# Altium footprint library Headers.PcbLib: 91 footprints (part 4 of 6)
Each footprint in its own frame and in the unit in brackets; x right, y up, seen from the top. Pads: shape width x height; smd on the part's side, far side on the other; paste and mask are expansions set on the pad; w line width, h text height; cw(c..) or ccw(c..) is an arc to the next point about the centre after c.
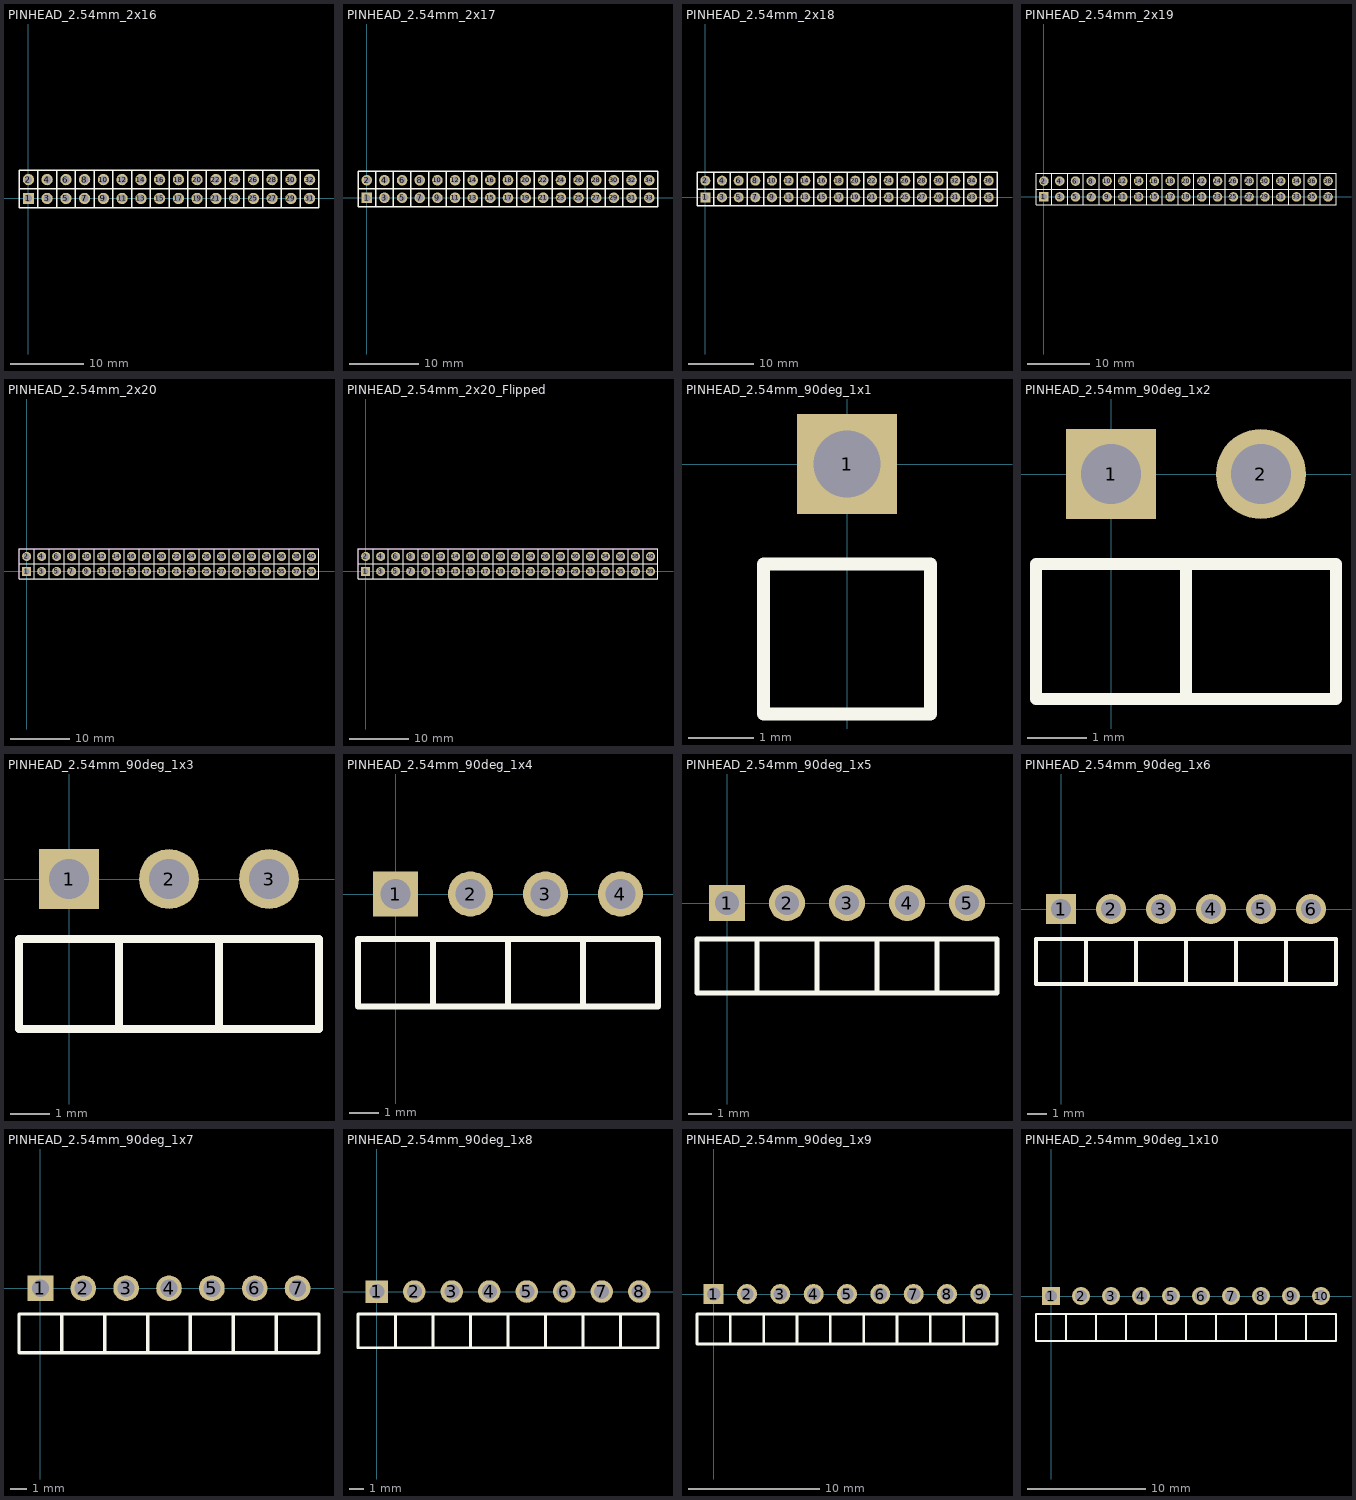
[diagram p3: the footprints below, top view; thin cyan lines are the x and y axes]

## PINHEAD_2.54mm_2x16 [mil]
pads (32):
  rect 60x60 hole 40: 1(0,0)
  round 60 hole 40: 2(0,100) 3(100,0) 4(100,100) 5(200,0) 6(200,100) 7(300,0) 8(300,100) 9(400,0) 10(400,100) 11(500,0) 12(500,100) 13(600,0) 14(600,100) 15(700,0) 16(700,100) 17(800,0) 18(800,100) 19(900,0) 20(900,100) 21(1000,0) 22(1000,100) 23(1100,0) 24(1100,100) 25(1200,0) 26(1200,100) 27(1300,0) 28(1300,100) 29(1400,0) 30(1400,100) 31(1500,0) 32(1500,100)
Top Overlay:
  lines w7.87: -50,50 50,50 ; -50,50 -50,-50 50,-50 ; -50,50 -50,150 50,150 ; -50,50 50,50 ; 50,-50 50,50 ; 50,-50 50,50 ; 50,-50 150,-50 ; 50,50 150,50 ; 50,50 150,50 ; 50,50 50,150 ; 50,50 50,150 ; 50,150 150,150 ; 150,-50 150,50 ; 150,-50 250,-50 ; 150,-50 150,50 ; 150,50 250,50 ; 150,50 150,150 ; 150,50 250,50 ; 150,50 150,150 ; 150,150 250,150 ; 250,-50 250,50 ; 250,-50 250,50 ; 250,-50 350,-50 ; 250,50 350,50 ; 250,50 350,50 ; 250,50 250,150 ; 250,50 250,150 ; 250,150 350,150 ; 350,-50 350,50 ; 350,-50 450,-50 ; 350,-50 350,50 ; 350,50 450,50 ; 350,50 350,150 ; 350,50 450,50 ; 350,50 350,150 ; 350,150 450,150 ; 450,-50 450,50 ; 450,-50 450,50 ; 450,-50 550,-50 ; 450,50 550,50 ; 450,50 550,50 ; 450,50 450,150 ; 450,50 450,150 ; 450,150 550,150 ; 550,-50 550,50 ; 550,-50 650,-50 ; 550,-50 550,50 ; 550,50 650,50 ; 550,50 550,150 ; 550,50 650,50 ; 550,50 550,150 ; 550,150 650,150 ; 650,-50 650,50 ; 650,-50 650,50 ; 650,-50 750,-50 ; 650,50 750,50 ; 650,50 750,50 ; 650,50 650,150 ; 650,50 650,150 ; 650,150 750,150 ; 750,-50 750,50 ; 750,-50 850,-50 ; 750,-50 750,50 ; 750,50 850,50 ; 750,50 750,150 ; 750,50 850,50 ; 750,50 750,150 ; 750,150 850,150 ; 850,-50 850,50 ; 850,-50 850,50 ; 850,-50 950,-50 ; 850,50 950,50 ; 850,50 950,50 ; 850,50 850,150 ; 850,50 850,150 ; 850,150 950,150 ; 950,-50 1050,-50 ; 950,-50 950,50 ; 950,-50 950,50 ; 950,50 1050,50 ; 950,50 950,150 ; 950,50 950,150 ; 950,50 1050,50 ; 950,150 1050,150 ; 1050,-50 1050,50 ; 1050,-50 1050,50 ; 1050,-50 1150,-50 ; 1050,50 1150,50 ; 1050,50 1150,50 ; 1050,50 1050,150 ; 1050,50 1050,150 ; 1050,150 1150,150 ; 1150,-50 1150,50 ; 1150,-50 1250,-50 ; 1150,-50 1150,50 ; 1150,50 1250,50 ; 1150,50 1150,150 ; 1150,50 1250,50 ; 1150,50 1150,150 ; 1150,150 1250,150 ; 1250,-50 1250,50 ; 1250,-50 1250,50 ; 1250,-50 1350,-50 ; 1250,50 1350,50 ; 1250,50 1350,50 ; 1250,50 1250,150 ; 1250,50 1250,150 ; 1250,150 1350,150 ; 1350,-50 1350,50 ; 1350,-50 1450,-50 ; 1350,-50 1350,50 ; 1350,50 1450,50 ; 1350,50 1350,150 ; 1350,50 1450,50 ; 1350,50 1350,150 ; 1350,150 1450,150 ; 1450,-50 1450,50 ; 1450,-50 1450,50 ; 1450,-50 1550,-50 1550,150 1450,150 ; 1450,50 1550,50 1450,50 ; 1450,50 1450,150 ; 1450,50 1450,150
3D body "User Library-HDR1X1 Rectangular Straight.step": height 339.58, standoff -124.98, extent 946.86,-53.14 1053.16,53.16
3D body "User Library-HDR1X1 Rectangular Straight.step": height 339.58, standoff -124.98, extent 1046.86,-53.14 1153.16,53.16
3D body "User Library-HDR1X1 Rectangular Straight.step": height 339.58, standoff -124.98, extent 1146.86,-53.14 1253.16,53.16
3D body "User Library-HDR1X1 Rectangular Straight.step": height 339.58, standoff -124.98, extent 1246.86,-53.14 1353.16,53.16
3D body "User Library-HDR1X1 Rectangular Straight.step": height 339.58, standoff -124.98, extent 1346.86,-53.14 1453.16,53.16
3D body "User Library-HDR1X1 Rectangular Straight.step": height 339.58, standoff -124.98, extent -53.14,-53.14 53.16,53.16
3D body "User Library-HDR1X1 Rectangular Straight.step": height 339.58, standoff -124.98, extent 46.86,-53.14 153.16,53.16
3D body "User Library-HDR1X1 Rectangular Straight.step": height 339.58, standoff -124.98, extent 146.86,-53.14 253.16,53.16
3D body "User Library-HDR1X1 Rectangular Straight.step": height 339.58, standoff -124.98, extent 246.86,-53.14 353.16,53.16
3D body "User Library-HDR1X1 Rectangular Straight.step": height 339.58, standoff -124.98, extent 346.86,-53.14 453.16,53.16
3D body "User Library-HDR1X1 Rectangular Straight.step": height 339.58, standoff -124.98, extent 446.86,-53.14 553.16,53.16
3D body "User Library-HDR1X1 Rectangular Straight.step": height 339.58, standoff -124.98, extent 546.86,-53.14 653.16,53.16
3D body "User Library-HDR1X1 Rectangular Straight.step": height 339.58, standoff -124.98, extent 646.86,-53.14 753.16,53.16
3D body "User Library-HDR1X1 Rectangular Straight.step": height 339.58, standoff -124.98, extent 746.86,-53.14 853.16,53.16
3D body "User Library-HDR1X1 Rectangular Straight.step": height 339.58, standoff -124.98, extent 846.86,-53.14 953.16,53.16
3D body "User Library-HDR1X1 Rectangular Straight.step": height 339.58, standoff -124.98, extent 846.86,46.86 953.16,153.16
3D body "User Library-HDR1X1 Rectangular Straight.step": height 339.58, standoff -124.98, extent 746.86,46.86 853.16,153.16
3D body "User Library-HDR1X1 Rectangular Straight.step": height 339.58, standoff -124.98, extent 646.86,46.86 753.16,153.16
3D body "User Library-HDR1X1 Rectangular Straight.step": height 339.58, standoff -124.98, extent 546.86,46.86 653.16,153.16
3D body "User Library-HDR1X1 Rectangular Straight.step": height 339.58, standoff -124.98, extent 446.86,46.86 553.16,153.16
3D body "User Library-HDR1X1 Rectangular Straight.step": height 339.58, standoff -124.98, extent 346.86,46.86 453.16,153.16
3D body "User Library-HDR1X1 Rectangular Straight.step": height 339.58, standoff -124.98, extent 246.86,46.86 353.16,153.16
3D body "User Library-HDR1X1 Rectangular Straight.step": height 339.58, standoff -124.98, extent 146.86,46.86 253.16,153.16
3D body "User Library-HDR1X1 Rectangular Straight.step": height 339.58, standoff -124.98, extent 46.86,46.86 153.16,153.16
3D body "User Library-HDR1X1 Rectangular Straight.step": height 339.58, standoff -124.98, extent -53.14,46.86 53.16,153.16
3D body "User Library-HDR1X1 Rectangular Straight.step": height 339.58, standoff -124.98, extent 1346.86,46.86 1453.16,153.16
3D body "User Library-HDR1X1 Rectangular Straight.step": height 339.58, standoff -124.98, extent 1246.86,46.86 1353.16,153.16
3D body "User Library-HDR1X1 Rectangular Straight.step": height 339.58, standoff -124.98, extent 1146.86,46.86 1253.16,153.16
3D body "User Library-HDR1X1 Rectangular Straight.step": height 339.58, standoff -124.98, extent 1046.86,46.86 1153.16,153.16
3D body "User Library-HDR1X1 Rectangular Straight.step": height 339.58, standoff -124.98, extent 946.86,46.86 1053.16,153.16
3D body "User Library-HDR1X1 Rectangular Straight.step": height 339.58, standoff -124.98, extent 1446.86,-53.14 1553.16,53.16
3D body "User Library-HDR1X1 Rectangular Straight.step": height 339.58, standoff -124.98, extent 1446.86,46.86 1553.16,153.16

## PINHEAD_2.54mm_2x17 [mil]
pads (34):
  rect 60x60 hole 40: 1(0,0)
  round 60 hole 40: 2(0,100) 3(100,0) 4(100,100) 5(200,0) 6(200,100) 7(300,0) 8(300,100) 9(400,0) 10(400,100) 11(500,0) 12(500,100) 13(600,0) 14(600,100) 15(700,0) 16(700,100) 17(800,0) 18(800,100) 19(900,0) 20(900,100) 21(1000,0) 22(1000,100) 23(1100,0) 24(1100,100) 25(1200,0) 26(1200,100) 27(1300,0) 28(1300,100) 29(1400,0) 30(1400,100) 31(1500,0) 32(1500,100) 33(1600,0) 34(1600,100)
Top Overlay:
  lines w7.87: -50,50 50,50 ; -50,50 -50,-50 50,-50 ; -50,50 -50,150 50,150 ; -50,50 50,50 ; 50,-50 50,50 ; 50,-50 50,50 ; 50,-50 150,-50 ; 50,50 150,50 ; 50,50 150,50 ; 50,50 50,150 ; 50,50 50,150 ; 50,150 150,150 ; 150,-50 150,50 ; 150,-50 250,-50 ; 150,-50 150,50 ; 150,50 250,50 ; 150,50 150,150 ; 150,50 250,50 ; 150,50 150,150 ; 150,150 250,150 ; 250,-50 250,50 ; 250,-50 250,50 ; 250,-50 350,-50 ; 250,50 350,50 ; 250,50 350,50 ; 250,50 250,150 ; 250,50 250,150 ; 250,150 350,150 ; 350,-50 350,50 ; 350,-50 450,-50 ; 350,-50 350,50 ; 350,50 450,50 ; 350,50 350,150 ; 350,50 450,50 ; 350,50 350,150 ; 350,150 450,150 ; 450,-50 450,50 ; 450,-50 450,50 ; 450,-50 550,-50 ; 450,50 550,50 ; 450,50 550,50 ; 450,50 450,150 ; 450,50 450,150 ; 450,150 550,150 ; 550,-50 550,50 ; 550,-50 650,-50 ; 550,-50 550,50 ; 550,50 650,50 ; 550,50 550,150 ; 550,50 650,50 ; 550,50 550,150 ; 550,150 650,150 ; 650,-50 650,50 ; 650,-50 650,50 ; 650,-50 750,-50 ; 650,50 750,50 ; 650,50 750,50 ; 650,50 650,150 ; 650,50 650,150 ; 650,150 750,150 ; 750,-50 750,50 ; 750,-50 850,-50 ; 750,-50 750,50 ; 750,50 850,50 ; 750,50 750,150 ; 750,50 850,50 ; 750,50 750,150 ; 750,150 850,150 ; 850,-50 850,50 ; 850,-50 850,50 ; 850,-50 950,-50 ; 850,50 950,50 ; 850,50 950,50 ; 850,50 850,150 ; 850,50 850,150 ; 850,150 950,150 ; 950,-50 1050,-50 ; 950,-50 950,50 ; 950,-50 950,50 ; 950,50 1050,50 ; 950,50 950,150 ; 950,50 950,150 ; 950,50 1050,50 ; 950,150 1050,150 ; 1050,-50 1050,50 ; 1050,-50 1050,50 ; 1050,-50 1150,-50 ; 1050,50 1150,50 ; 1050,50 1150,50 ; 1050,50 1050,150 ; 1050,50 1050,150 ; 1050,150 1150,150 ; 1150,-50 1150,50 ; 1150,-50 1250,-50 ; 1150,-50 1150,50 ; 1150,50 1250,50 ; 1150,50 1150,150 ; 1150,50 1250,50 ; 1150,50 1150,150 ; 1150,150 1250,150 ; 1250,-50 1250,50 ; 1250,-50 1250,50 ; 1250,-50 1350,-50 ; 1250,50 1350,50 ; 1250,50 1350,50 ; 1250,50 1250,150 ; 1250,50 1250,150 ; 1250,150 1350,150 ; 1350,-50 1350,50 ; 1350,-50 1450,-50 ; 1350,-50 1350,50 ; 1350,50 1450,50 ; 1350,50 1350,150 ; 1350,50 1450,50 ; 1350,50 1350,150 ; 1350,150 1450,150 ; 1450,-50 1450,50 ; 1450,-50 1450,50 ; 1450,-50 1550,-50 ; 1450,50 1550,50 ; 1450,50 1550,50 ; 1450,50 1450,150 ; 1450,50 1450,150 ; 1450,150 1550,150 ; 1550,-50 1550,50 ; 1550,-50 1650,-50 1650,150 1550,150 ; 1550,-50 1550,50 ; 1550,50 1650,50 1550,50 ; 1550,50 1550,150 ; 1550,50 1550,150
3D body "User Library-HDR1X1 Rectangular Straight.step": height 339.58, standoff -124.98, extent 946.86,-53.14 1053.16,53.16
3D body "User Library-HDR1X1 Rectangular Straight.step": height 339.58, standoff -124.98, extent 1046.86,-53.14 1153.16,53.16
3D body "User Library-HDR1X1 Rectangular Straight.step": height 339.58, standoff -124.98, extent 1146.86,-53.14 1253.16,53.16
3D body "User Library-HDR1X1 Rectangular Straight.step": height 339.58, standoff -124.98, extent 1246.86,-53.14 1353.16,53.16
3D body "User Library-HDR1X1 Rectangular Straight.step": height 339.58, standoff -124.98, extent 1346.86,-53.14 1453.16,53.16
3D body "User Library-HDR1X1 Rectangular Straight.step": height 339.58, standoff -124.98, extent 1446.86,-53.14 1553.16,53.16
3D body "User Library-HDR1X1 Rectangular Straight.step": height 339.58, standoff -124.98, extent 1546.86,-53.14 1653.16,53.16
3D body "User Library-HDR1X1 Rectangular Straight.step": height 339.58, standoff -124.98, extent -53.14,-53.14 53.16,53.16
3D body "User Library-HDR1X1 Rectangular Straight.step": height 339.58, standoff -124.98, extent 46.86,-53.14 153.16,53.16
3D body "User Library-HDR1X1 Rectangular Straight.step": height 339.58, standoff -124.98, extent 146.86,-53.14 253.16,53.16
3D body "User Library-HDR1X1 Rectangular Straight.step": height 339.58, standoff -124.98, extent 246.86,-53.14 353.16,53.16
3D body "User Library-HDR1X1 Rectangular Straight.step": height 339.58, standoff -124.98, extent 346.86,-53.14 453.16,53.16
3D body "User Library-HDR1X1 Rectangular Straight.step": height 339.58, standoff -124.98, extent 446.86,-53.14 553.16,53.16
3D body "User Library-HDR1X1 Rectangular Straight.step": height 339.58, standoff -124.98, extent 546.86,-53.14 653.16,53.16
3D body "User Library-HDR1X1 Rectangular Straight.step": height 339.58, standoff -124.98, extent 646.86,-53.14 753.16,53.16
3D body "User Library-HDR1X1 Rectangular Straight.step": height 339.58, standoff -124.98, extent 746.86,-53.14 853.16,53.16
3D body "User Library-HDR1X1 Rectangular Straight.step": height 339.58, standoff -124.98, extent 846.86,-53.14 953.16,53.16
3D body "User Library-HDR1X1 Rectangular Straight.step": height 339.58, standoff -124.98, extent 846.86,46.86 953.16,153.16
3D body "User Library-HDR1X1 Rectangular Straight.step": height 339.58, standoff -124.98, extent 746.86,46.86 853.16,153.16
3D body "User Library-HDR1X1 Rectangular Straight.step": height 339.58, standoff -124.98, extent 646.86,46.86 753.16,153.16
3D body "User Library-HDR1X1 Rectangular Straight.step": height 339.58, standoff -124.98, extent 546.86,46.86 653.16,153.16
3D body "User Library-HDR1X1 Rectangular Straight.step": height 339.58, standoff -124.98, extent 446.86,46.86 553.16,153.16
3D body "User Library-HDR1X1 Rectangular Straight.step": height 339.58, standoff -124.98, extent 346.86,46.86 453.16,153.16
3D body "User Library-HDR1X1 Rectangular Straight.step": height 339.58, standoff -124.98, extent 246.86,46.86 353.16,153.16
3D body "User Library-HDR1X1 Rectangular Straight.step": height 339.58, standoff -124.98, extent 146.86,46.86 253.16,153.16
3D body "User Library-HDR1X1 Rectangular Straight.step": height 339.58, standoff -124.98, extent 46.86,46.86 153.16,153.16
3D body "User Library-HDR1X1 Rectangular Straight.step": height 339.58, standoff -124.98, extent -53.14,46.86 53.16,153.16
3D body "User Library-HDR1X1 Rectangular Straight.step": height 339.58, standoff -124.98, extent 1546.86,46.86 1653.16,153.16
3D body "User Library-HDR1X1 Rectangular Straight.step": height 339.58, standoff -124.98, extent 1446.86,46.86 1553.16,153.16
3D body "User Library-HDR1X1 Rectangular Straight.step": height 339.58, standoff -124.98, extent 1346.86,46.86 1453.16,153.16
3D body "User Library-HDR1X1 Rectangular Straight.step": height 339.58, standoff -124.98, extent 1246.86,46.86 1353.16,153.16
3D body "User Library-HDR1X1 Rectangular Straight.step": height 339.58, standoff -124.98, extent 1146.86,46.86 1253.16,153.16
3D body "User Library-HDR1X1 Rectangular Straight.step": height 339.58, standoff -124.98, extent 1046.86,46.86 1153.16,153.16
3D body "User Library-HDR1X1 Rectangular Straight.step": height 339.58, standoff -124.98, extent 946.86,46.86 1053.16,153.16

## PINHEAD_2.54mm_2x18 [mil]
pads (36):
  rect 60x60 hole 40: 1(0,0)
  round 60 hole 40: 2(0,100) 3(100,0) 4(100,100) 5(200,0) 6(200,100) 7(300,0) 8(300,100) 9(400,0) 10(400,100) 11(500,0) 12(500,100) 13(600,0) 14(600,100) 15(700,0) 16(700,100) 17(800,0) 18(800,100) 19(900,0) 20(900,100) 21(1000,0) 22(1000,100) 23(1100,0) 24(1100,100) 25(1200,0) 26(1200,100) 27(1300,0) 28(1300,100) 29(1400,0) 30(1400,100) 31(1500,0) 32(1500,100) 33(1600,0) 34(1600,100) 35(1700,0) 36(1700,100)
Top Overlay:
  lines w7.87: -50,50 50,50 ; -50,50 -50,-50 50,-50 ; -50,50 -50,150 50,150 ; -50,50 50,50 ; 50,-50 50,50 ; 50,-50 50,50 ; 50,-50 150,-50 ; 50,50 150,50 ; 50,50 150,50 ; 50,50 50,150 ; 50,50 50,150 ; 50,150 150,150 ; 150,-50 150,50 ; 150,-50 250,-50 ; 150,-50 150,50 ; 150,50 250,50 ; 150,50 150,150 ; 150,50 250,50 ; 150,50 150,150 ; 150,150 250,150 ; 250,-50 250,50 ; 250,-50 250,50 ; 250,-50 350,-50 ; 250,50 350,50 ; 250,50 350,50 ; 250,50 250,150 ; 250,50 250,150 ; 250,150 350,150 ; 350,-50 350,50 ; 350,-50 450,-50 ; 350,-50 350,50 ; 350,50 450,50 ; 350,50 350,150 ; 350,50 450,50 ; 350,50 350,150 ; 350,150 450,150 ; 450,-50 450,50 ; 450,-50 450,50 ; 450,-50 550,-50 ; 450,50 550,50 ; 450,50 550,50 ; 450,50 450,150 ; 450,50 450,150 ; 450,150 550,150 ; 550,-50 550,50 ; 550,-50 650,-50 ; 550,-50 550,50 ; 550,50 650,50 ; 550,50 550,150 ; 550,50 650,50 ; 550,50 550,150 ; 550,150 650,150 ; 650,-50 650,50 ; 650,-50 650,50 ; 650,-50 750,-50 ; 650,50 750,50 ; 650,50 750,50 ; 650,50 650,150 ; 650,50 650,150 ; 650,150 750,150 ; 750,-50 750,50 ; 750,-50 850,-50 ; 750,-50 750,50 ; 750,50 850,50 ; 750,50 750,150 ; 750,50 850,50 ; 750,50 750,150 ; 750,150 850,150 ; 850,-50 850,50 ; 850,-50 850,50 ; 850,-50 950,-50 ; 850,50 950,50 ; 850,50 950,50 ; 850,50 850,150 ; 850,50 850,150 ; 850,150 950,150 ; 950,-50 1050,-50 ; 950,-50 950,50 ; 950,-50 950,50 ; 950,50 1050,50 ; 950,50 950,150 ; 950,50 950,150 ; 950,50 1050,50 ; 950,150 1050,150 ; 1050,-50 1050,50 ; 1050,-50 1050,50 ; 1050,-50 1150,-50 ; 1050,50 1150,50 ; 1050,50 1150,50 ; 1050,50 1050,150 ; 1050,50 1050,150 ; 1050,150 1150,150 ; 1150,-50 1150,50 ; 1150,-50 1250,-50 ; 1150,-50 1150,50 ; 1150,50 1250,50 ; 1150,50 1150,150 ; 1150,50 1250,50 ; 1150,50 1150,150 ; 1150,150 1250,150 ; 1250,-50 1250,50 ; 1250,-50 1250,50 ; 1250,-50 1350,-50 ; 1250,50 1350,50 ; 1250,50 1350,50 ; 1250,50 1250,150 ; 1250,50 1250,150 ; 1250,150 1350,150 ; 1350,-50 1350,50 ; 1350,-50 1450,-50 ; 1350,-50 1350,50 ; 1350,50 1450,50 ; 1350,50 1350,150 ; 1350,50 1450,50 ; 1350,50 1350,150 ; 1350,150 1450,150 ; 1450,-50 1450,50 ; 1450,-50 1450,50 ; 1450,-50 1550,-50 ; 1450,50 1550,50 ; 1450,50 1550,50 ; 1450,50 1450,150 ; 1450,50 1450,150 ; 1450,150 1550,150 ; 1550,-50 1550,50 ; 1550,-50 1650,-50 ; 1550,-50 1550,50 ; 1550,50 1650,50 ; 1550,50 1550,150 ; 1550,50 1650,50 ; 1550,50 1550,150 ; 1550,150 1650,150 ; 1650,-50 1650,50 ; 1650,-50 1650,50 ; 1650,-50 1750,-50 1750,150 1650,150 ; 1650,50 1750,50 1650,50 ; 1650,50 1650,150 ; 1650,50 1650,150
3D body "User Library-HDR1X1 Rectangular Straight.step": height 339.58, standoff -124.98, extent 946.86,-53.14 1053.16,53.16
3D body "User Library-HDR1X1 Rectangular Straight.step": height 339.58, standoff -124.98, extent 1046.86,-53.14 1153.16,53.16
3D body "User Library-HDR1X1 Rectangular Straight.step": height 339.58, standoff -124.98, extent 1146.86,-53.14 1253.16,53.16
3D body "User Library-HDR1X1 Rectangular Straight.step": height 339.58, standoff -124.98, extent 1246.86,-53.14 1353.16,53.16
3D body "User Library-HDR1X1 Rectangular Straight.step": height 339.58, standoff -124.98, extent 1346.86,-53.14 1453.16,53.16
3D body "User Library-HDR1X1 Rectangular Straight.step": height 339.58, standoff -124.98, extent 1446.86,-53.14 1553.16,53.16
3D body "User Library-HDR1X1 Rectangular Straight.step": height 339.58, standoff -124.98, extent 1546.86,-53.14 1653.16,53.16
3D body "User Library-HDR1X1 Rectangular Straight.step": height 339.58, standoff -124.98, extent 1646.86,-53.14 1753.16,53.16
3D body "User Library-HDR1X1 Rectangular Straight.step": height 339.58, standoff -124.98, extent -53.14,-53.14 53.16,53.16
3D body "User Library-HDR1X1 Rectangular Straight.step": height 339.58, standoff -124.98, extent 46.86,-53.14 153.16,53.16
3D body "User Library-HDR1X1 Rectangular Straight.step": height 339.58, standoff -124.98, extent 146.86,-53.14 253.16,53.16
3D body "User Library-HDR1X1 Rectangular Straight.step": height 339.58, standoff -124.98, extent 246.86,-53.14 353.16,53.16
3D body "User Library-HDR1X1 Rectangular Straight.step": height 339.58, standoff -124.98, extent 346.86,-53.14 453.16,53.16
3D body "User Library-HDR1X1 Rectangular Straight.step": height 339.58, standoff -124.98, extent 446.86,-53.14 553.16,53.16
3D body "User Library-HDR1X1 Rectangular Straight.step": height 339.58, standoff -124.98, extent 546.86,-53.14 653.16,53.16
3D body "User Library-HDR1X1 Rectangular Straight.step": height 339.58, standoff -124.98, extent 646.86,-53.14 753.16,53.16
3D body "User Library-HDR1X1 Rectangular Straight.step": height 339.58, standoff -124.98, extent 746.86,-53.14 853.16,53.16
3D body "User Library-HDR1X1 Rectangular Straight.step": height 339.58, standoff -124.98, extent 846.86,-53.14 953.16,53.16
3D body "User Library-HDR1X1 Rectangular Straight.step": height 339.58, standoff -124.98, extent 846.86,46.86 953.16,153.16
3D body "User Library-HDR1X1 Rectangular Straight.step": height 339.58, standoff -124.98, extent 746.86,46.86 853.16,153.16
3D body "User Library-HDR1X1 Rectangular Straight.step": height 339.58, standoff -124.98, extent 646.86,46.86 753.16,153.16
3D body "User Library-HDR1X1 Rectangular Straight.step": height 339.58, standoff -124.98, extent 546.86,46.86 653.16,153.16
3D body "User Library-HDR1X1 Rectangular Straight.step": height 339.58, standoff -124.98, extent 446.86,46.86 553.16,153.16
3D body "User Library-HDR1X1 Rectangular Straight.step": height 339.58, standoff -124.98, extent 346.86,46.86 453.16,153.16
3D body "User Library-HDR1X1 Rectangular Straight.step": height 339.58, standoff -124.98, extent 246.86,46.86 353.16,153.16
3D body "User Library-HDR1X1 Rectangular Straight.step": height 339.58, standoff -124.98, extent 146.86,46.86 253.16,153.16
3D body "User Library-HDR1X1 Rectangular Straight.step": height 339.58, standoff -124.98, extent 46.86,46.86 153.16,153.16
3D body "User Library-HDR1X1 Rectangular Straight.step": height 339.58, standoff -124.98, extent -53.14,46.86 53.16,153.16
3D body "User Library-HDR1X1 Rectangular Straight.step": height 339.58, standoff -124.98, extent 1646.86,46.86 1753.16,153.16
3D body "User Library-HDR1X1 Rectangular Straight.step": height 339.58, standoff -124.98, extent 1546.86,46.86 1653.16,153.16
3D body "User Library-HDR1X1 Rectangular Straight.step": height 339.58, standoff -124.98, extent 1446.86,46.86 1553.16,153.16
3D body "User Library-HDR1X1 Rectangular Straight.step": height 339.58, standoff -124.98, extent 1346.86,46.86 1453.16,153.16
3D body "User Library-HDR1X1 Rectangular Straight.step": height 339.58, standoff -124.98, extent 1246.86,46.86 1353.16,153.16
3D body "User Library-HDR1X1 Rectangular Straight.step": height 339.58, standoff -124.98, extent 1146.86,46.86 1253.16,153.16
3D body "User Library-HDR1X1 Rectangular Straight.step": height 339.58, standoff -124.98, extent 1046.86,46.86 1153.16,153.16
3D body "User Library-HDR1X1 Rectangular Straight.step": height 339.58, standoff -124.98, extent 946.86,46.86 1053.16,153.16

## PINHEAD_2.54mm_2x19 [mil]
pads (38):
  rect 60x60 hole 40: 1(0,0)
  round 60 hole 40: 2(0,100) 3(100,0) 4(100,100) 5(200,0) 6(200,100) 7(300,0) 8(300,100) 9(400,0) 10(400,100) 11(500,0) 12(500,100) 13(600,0) 14(600,100) 15(700,0) 16(700,100) 17(800,0) 18(800,100) 19(900,0) 20(900,100) 21(1000,0) 22(1000,100) 23(1100,0) 24(1100,100) 25(1200,0) 26(1200,100) 27(1300,0) 28(1300,100) 29(1400,0) 30(1400,100) 31(1500,0) 32(1500,100) 33(1600,0) 34(1600,100) 35(1700,0) 36(1700,100) 37(1800,0) 38(1800,100)
Top Overlay:
  drawing of 151 lines, arcs and shapes, not listed
3D body "User Library-HDR1X1 Rectangular Straight.step": height 339.58, standoff -124.98, extent 946.86,-53.14 1053.16,53.16
3D body "User Library-HDR1X1 Rectangular Straight.step": height 339.58, standoff -124.98, extent 1046.86,-53.14 1153.16,53.16
3D body "User Library-HDR1X1 Rectangular Straight.step": height 339.58, standoff -124.98, extent 1146.86,-53.14 1253.16,53.16
3D body "User Library-HDR1X1 Rectangular Straight.step": height 339.58, standoff -124.98, extent 1246.86,-53.14 1353.16,53.16
3D body "User Library-HDR1X1 Rectangular Straight.step": height 339.58, standoff -124.98, extent 1346.86,-53.14 1453.16,53.16
3D body "User Library-HDR1X1 Rectangular Straight.step": height 339.58, standoff -124.98, extent 1446.86,-53.14 1553.16,53.16
3D body "User Library-HDR1X1 Rectangular Straight.step": height 339.58, standoff -124.98, extent 1546.86,-53.14 1653.16,53.16
3D body "User Library-HDR1X1 Rectangular Straight.step": height 339.58, standoff -124.98, extent 1646.86,-53.14 1753.16,53.16
3D body "User Library-HDR1X1 Rectangular Straight.step": height 339.58, standoff -124.98, extent 1746.86,-53.14 1853.16,53.16
3D body "User Library-HDR1X1 Rectangular Straight.step": height 339.58, standoff -124.98, extent -53.14,-53.14 53.16,53.16
3D body "User Library-HDR1X1 Rectangular Straight.step": height 339.58, standoff -124.98, extent 46.86,-53.14 153.16,53.16
3D body "User Library-HDR1X1 Rectangular Straight.step": height 339.58, standoff -124.98, extent 146.86,-53.14 253.16,53.16
3D body "User Library-HDR1X1 Rectangular Straight.step": height 339.58, standoff -124.98, extent 246.86,-53.14 353.16,53.16
3D body "User Library-HDR1X1 Rectangular Straight.step": height 339.58, standoff -124.98, extent 346.86,-53.14 453.16,53.16
3D body "User Library-HDR1X1 Rectangular Straight.step": height 339.58, standoff -124.98, extent 446.86,-53.14 553.16,53.16
3D body "User Library-HDR1X1 Rectangular Straight.step": height 339.58, standoff -124.98, extent 546.86,-53.14 653.16,53.16
3D body "User Library-HDR1X1 Rectangular Straight.step": height 339.58, standoff -124.98, extent 646.86,-53.14 753.16,53.16
3D body "User Library-HDR1X1 Rectangular Straight.step": height 339.58, standoff -124.98, extent 746.86,-53.14 853.16,53.16
3D body "User Library-HDR1X1 Rectangular Straight.step": height 339.58, standoff -124.98, extent 846.86,-53.14 953.16,53.16
3D body "User Library-HDR1X1 Rectangular Straight.step": height 339.58, standoff -124.98, extent 846.86,46.86 953.16,153.16
3D body "User Library-HDR1X1 Rectangular Straight.step": height 339.58, standoff -124.98, extent 746.86,46.86 853.16,153.16
3D body "User Library-HDR1X1 Rectangular Straight.step": height 339.58, standoff -124.98, extent 646.86,46.86 753.16,153.16
3D body "User Library-HDR1X1 Rectangular Straight.step": height 339.58, standoff -124.98, extent 546.86,46.86 653.16,153.16
3D body "User Library-HDR1X1 Rectangular Straight.step": height 339.58, standoff -124.98, extent 446.86,46.86 553.16,153.16
3D body "User Library-HDR1X1 Rectangular Straight.step": height 339.58, standoff -124.98, extent 346.86,46.86 453.16,153.16
3D body "User Library-HDR1X1 Rectangular Straight.step": height 339.58, standoff -124.98, extent 246.86,46.86 353.16,153.16
3D body "User Library-HDR1X1 Rectangular Straight.step": height 339.58, standoff -124.98, extent 146.86,46.86 253.16,153.16
3D body "User Library-HDR1X1 Rectangular Straight.step": height 339.58, standoff -124.98, extent 46.86,46.86 153.16,153.16
3D body "User Library-HDR1X1 Rectangular Straight.step": height 339.58, standoff -124.98, extent -53.14,46.86 53.16,153.16
3D body "User Library-HDR1X1 Rectangular Straight.step": height 339.58, standoff -124.98, extent 1746.86,46.86 1853.16,153.16
3D body "User Library-HDR1X1 Rectangular Straight.step": height 339.58, standoff -124.98, extent 1646.86,46.86 1753.16,153.16
3D body "User Library-HDR1X1 Rectangular Straight.step": height 339.58, standoff -124.98, extent 1546.86,46.86 1653.16,153.16
3D body "User Library-HDR1X1 Rectangular Straight.step": height 339.58, standoff -124.98, extent 1446.86,46.86 1553.16,153.16
3D body "User Library-HDR1X1 Rectangular Straight.step": height 339.58, standoff -124.98, extent 1346.86,46.86 1453.16,153.16
3D body "User Library-HDR1X1 Rectangular Straight.step": height 339.58, standoff -124.98, extent 1246.86,46.86 1353.16,153.16
3D body "User Library-HDR1X1 Rectangular Straight.step": height 339.58, standoff -124.98, extent 1146.86,46.86 1253.16,153.16
3D body "User Library-HDR1X1 Rectangular Straight.step": height 339.58, standoff -124.98, extent 1046.86,46.86 1153.16,153.16
3D body "User Library-HDR1X1 Rectangular Straight.step": height 339.58, standoff -124.98, extent 946.86,46.86 1053.16,153.16

## PINHEAD_2.54mm_2x20 [mil]
pads (40):
  rect 60x60 hole 40: 1(0,0)
  round 60 hole 40: 2(0,100) 3(100,0) 4(100,100) 5(200,0) 6(200,100) 7(300,0) 8(300,100) 9(400,0) 10(400,100) 11(500,0) 12(500,100) 13(600,0) 14(600,100) 15(700,0) 16(700,100) 17(800,0) 18(800,100) 19(900,0) 20(900,100) 21(1000,0) 22(1000,100) 23(1100,0) 24(1100,100) 25(1200,0) 26(1200,100) 27(1300,0) 28(1300,100) 29(1400,0) 30(1400,100) 31(1500,0) 32(1500,100) 33(1600,0) 34(1600,100) 35(1700,0) 36(1700,100) 37(1800,0) 38(1800,100) 39(1900,0) 40(1900,100)
Top Overlay:
  drawing of 160 lines, arcs and shapes, not listed
Mechanical 15:
  lines w1.97: -51.18,-51.18 1948.82,-51.18 1948.82,149.61 -51.18,149.61 -51.18,-51.18
  text ".Designator" at 35.43,31.5 h78.74
3D body "User Library-HDR1X1 Rectangular Straight.step": height 339.58, standoff -124.98, extent 946.86,46.86 1053.16,153.16
3D body "User Library-HDR1X1 Rectangular Straight.step": height 339.58, standoff -124.98, extent 1046.86,46.86 1153.16,153.16
3D body "User Library-HDR1X1 Rectangular Straight.step": height 339.58, standoff -124.98, extent 1146.86,46.86 1253.16,153.16
3D body "User Library-HDR1X1 Rectangular Straight.step": height 339.58, standoff -124.98, extent 1246.86,46.86 1353.16,153.16
3D body "User Library-HDR1X1 Rectangular Straight.step": height 339.58, standoff -124.98, extent 1346.86,46.86 1453.16,153.16
3D body "User Library-HDR1X1 Rectangular Straight.step": height 339.58, standoff -124.98, extent 1446.86,46.86 1553.16,153.16
3D body "User Library-HDR1X1 Rectangular Straight.step": height 339.58, standoff -124.98, extent 1546.86,46.86 1653.16,153.16
3D body "User Library-HDR1X1 Rectangular Straight.step": height 339.58, standoff -124.98, extent 1646.86,46.86 1753.16,153.16
3D body "User Library-HDR1X1 Rectangular Straight.step": height 339.58, standoff -124.98, extent 1746.86,46.86 1853.16,153.16
3D body "User Library-HDR1X1 Rectangular Straight.step": height 339.58, standoff -124.98, extent 1846.86,46.86 1953.16,153.16
3D body "User Library-HDR1X1 Rectangular Straight.step": height 339.58, standoff -124.98, extent -53.14,46.86 53.16,153.16
3D body "User Library-HDR1X1 Rectangular Straight.step": height 339.58, standoff -124.98, extent 46.86,46.86 153.16,153.16
3D body "User Library-HDR1X1 Rectangular Straight.step": height 339.58, standoff -124.98, extent 146.86,46.86 253.16,153.16
3D body "User Library-HDR1X1 Rectangular Straight.step": height 339.58, standoff -124.98, extent 246.86,46.86 353.16,153.16
3D body "User Library-HDR1X1 Rectangular Straight.step": height 339.58, standoff -124.98, extent 346.86,46.86 453.16,153.16
3D body "User Library-HDR1X1 Rectangular Straight.step": height 339.58, standoff -124.98, extent 446.86,46.86 553.16,153.16
3D body "User Library-HDR1X1 Rectangular Straight.step": height 339.58, standoff -124.98, extent 546.86,46.86 653.16,153.16
3D body "User Library-HDR1X1 Rectangular Straight.step": height 339.58, standoff -124.98, extent 646.86,46.86 753.16,153.16
3D body "User Library-HDR1X1 Rectangular Straight.step": height 339.58, standoff -124.98, extent 746.86,46.86 853.16,153.16
3D body "User Library-HDR1X1 Rectangular Straight.step": height 339.58, standoff -124.98, extent 846.86,46.86 953.16,153.16
3D body "User Library-HDR1X1 Rectangular Straight.step": height 339.58, standoff -124.98, extent 846.86,-53.14 953.16,53.16
3D body "User Library-HDR1X1 Rectangular Straight.step": height 339.58, standoff -124.98, extent 746.86,-53.14 853.16,53.16
3D body "User Library-HDR1X1 Rectangular Straight.step": height 339.58, standoff -124.98, extent 646.86,-53.14 753.16,53.16
3D body "User Library-HDR1X1 Rectangular Straight.step": height 339.58, standoff -124.98, extent 546.86,-53.14 653.16,53.16
3D body "User Library-HDR1X1 Rectangular Straight.step": height 339.58, standoff -124.98, extent 446.86,-53.14 553.16,53.16
3D body "User Library-HDR1X1 Rectangular Straight.step": height 339.58, standoff -124.98, extent 346.86,-53.14 453.16,53.16
3D body "User Library-HDR1X1 Rectangular Straight.step": height 339.58, standoff -124.98, extent 246.86,-53.14 353.16,53.16
3D body "User Library-HDR1X1 Rectangular Straight.step": height 339.58, standoff -124.98, extent 146.86,-53.14 253.16,53.16
3D body "User Library-HDR1X1 Rectangular Straight.step": height 339.58, standoff -124.98, extent 46.86,-53.14 153.16,53.16
3D body "User Library-HDR1X1 Rectangular Straight.step": height 339.58, standoff -124.98, extent -53.14,-53.14 53.16,53.16
3D body "User Library-HDR1X1 Rectangular Straight.step": height 339.58, standoff -124.98, extent 1846.86,-53.14 1953.16,53.16
3D body "User Library-HDR1X1 Rectangular Straight.step": height 339.58, standoff -124.98, extent 1746.86,-53.14 1853.16,53.16
3D body "User Library-HDR1X1 Rectangular Straight.step": height 339.58, standoff -124.98, extent 1646.86,-53.14 1753.16,53.16
3D body "User Library-HDR1X1 Rectangular Straight.step": height 339.58, standoff -124.98, extent 1546.86,-53.14 1653.16,53.16
3D body "User Library-HDR1X1 Rectangular Straight.step": height 339.58, standoff -124.98, extent 1446.86,-53.14 1553.16,53.16
3D body "User Library-HDR1X1 Rectangular Straight.step": height 339.58, standoff -124.98, extent 1346.86,-53.14 1453.16,53.16
3D body "User Library-HDR1X1 Rectangular Straight.step": height 339.58, standoff -124.98, extent 1246.86,-53.14 1353.16,53.16
3D body "User Library-HDR1X1 Rectangular Straight.step": height 339.58, standoff -124.98, extent 1146.86,-53.14 1253.16,53.16
3D body "User Library-HDR1X1 Rectangular Straight.step": height 339.58, standoff -124.98, extent 1046.86,-53.14 1153.16,53.16
3D body "User Library-HDR1X1 Rectangular Straight.step": height 339.58, standoff -124.98, extent 946.86,-53.14 1053.16,53.16

## PINHEAD_2.54mm_2x20_Flipped [mil]
pads (40):
  rect 60x60 hole 40: 1(0,0)
  round 60 hole 40: 2(0,100) 3(100,0) 4(100,100) 5(200,0) 6(200,100) 7(300,0) 8(300,100) 9(400,0) 10(400,100) 11(500,0) 12(500,100) 13(600,0) 14(600,100) 15(700,0) 16(700,100) 17(800,0) 18(800,100) 19(900,0) 20(900,100) 21(1000,0) 22(1000,100) 23(1100,0) 24(1100,100) 25(1200,0) 26(1200,100) 27(1300,0) 28(1300,100) 29(1400,0) 30(1400,100) 31(1500,0) 32(1500,100) 33(1600,0) 34(1600,100) 35(1700,0) 36(1700,100) 37(1800,0) 38(1800,100) 39(1900,0) 40(1900,100)
Top Overlay:
  drawing of 160 lines, arcs and shapes, not listed
Mechanical 15:
  lines w1.97: -51.18,-51.18 1948.82,-51.18 1948.82,149.61 -51.18,149.61 -51.18,-51.18
  text ".Designator" at 35.43,31.5 h78.74
3D body "User Library-HDR1X1 Rectangular Straight.step": height 234.25, standoff -230.31, extent 946.86,46.86 1053.16,153.16
3D body "User Library-HDR1X1 Rectangular Straight.step": height 234.25, standoff -230.31, extent 1046.86,46.86 1153.16,153.16
3D body "User Library-HDR1X1 Rectangular Straight.step": height 234.25, standoff -230.31, extent 1146.86,46.86 1253.16,153.16
3D body "User Library-HDR1X1 Rectangular Straight.step": height 234.25, standoff -230.31, extent 1246.86,46.86 1353.16,153.16
3D body "User Library-HDR1X1 Rectangular Straight.step": height 234.25, standoff -230.31, extent 1346.86,46.86 1453.16,153.16
3D body "User Library-HDR1X1 Rectangular Straight.step": height 234.25, standoff -230.31, extent 1446.86,46.86 1553.16,153.16
3D body "User Library-HDR1X1 Rectangular Straight.step": height 234.25, standoff -230.31, extent 1546.86,46.86 1653.16,153.16
3D body "User Library-HDR1X1 Rectangular Straight.step": height 234.25, standoff -230.31, extent 1646.86,46.86 1753.16,153.16
3D body "User Library-HDR1X1 Rectangular Straight.step": height 234.25, standoff -230.31, extent 1746.86,46.86 1853.16,153.16
3D body "User Library-HDR1X1 Rectangular Straight.step": height 234.25, standoff -230.31, extent 1846.86,46.86 1953.16,153.16
3D body "User Library-HDR1X1 Rectangular Straight.step": height 234.25, standoff -230.31, extent -53.14,46.86 53.16,153.16
3D body "User Library-HDR1X1 Rectangular Straight.step": height 234.25, standoff -230.31, extent 46.86,46.86 153.16,153.16
3D body "User Library-HDR1X1 Rectangular Straight.step": height 234.25, standoff -230.31, extent 146.86,46.86 253.16,153.16
3D body "User Library-HDR1X1 Rectangular Straight.step": height 234.25, standoff -230.31, extent 246.86,46.86 353.16,153.16
3D body "User Library-HDR1X1 Rectangular Straight.step": height 234.25, standoff -230.31, extent 346.86,46.86 453.16,153.16
3D body "User Library-HDR1X1 Rectangular Straight.step": height 234.25, standoff -230.31, extent 446.86,46.86 553.16,153.16
3D body "User Library-HDR1X1 Rectangular Straight.step": height 234.25, standoff -230.31, extent 546.86,46.86 653.16,153.16
3D body "User Library-HDR1X1 Rectangular Straight.step": height 234.25, standoff -230.31, extent 646.86,46.86 753.16,153.16
3D body "User Library-HDR1X1 Rectangular Straight.step": height 234.25, standoff -230.31, extent 746.86,46.86 853.16,153.16
3D body "User Library-HDR1X1 Rectangular Straight.step": height 234.25, standoff -230.31, extent 846.86,46.86 953.16,153.16
3D body "User Library-HDR1X1 Rectangular Straight.step": height 234.25, standoff -230.31, extent 846.86,-53.14 953.16,53.16
3D body "User Library-HDR1X1 Rectangular Straight.step": height 234.25, standoff -230.31, extent 746.86,-53.14 853.16,53.16
3D body "User Library-HDR1X1 Rectangular Straight.step": height 234.25, standoff -230.31, extent 646.86,-53.14 753.16,53.16
3D body "User Library-HDR1X1 Rectangular Straight.step": height 234.25, standoff -230.31, extent 546.86,-53.14 653.16,53.16
3D body "User Library-HDR1X1 Rectangular Straight.step": height 234.25, standoff -230.31, extent 446.86,-53.14 553.16,53.16
3D body "User Library-HDR1X1 Rectangular Straight.step": height 234.25, standoff -230.31, extent 346.86,-53.14 453.16,53.16
3D body "User Library-HDR1X1 Rectangular Straight.step": height 234.25, standoff -230.31, extent 246.86,-53.14 353.16,53.16
3D body "User Library-HDR1X1 Rectangular Straight.step": height 234.25, standoff -230.31, extent 146.86,-53.14 253.16,53.16
3D body "User Library-HDR1X1 Rectangular Straight.step": height 234.25, standoff -230.31, extent 46.86,-53.14 153.16,53.16
3D body "User Library-HDR1X1 Rectangular Straight.step": height 234.25, standoff -230.31, extent -53.14,-53.14 53.16,53.16
3D body "User Library-HDR1X1 Rectangular Straight.step": height 234.25, standoff -230.31, extent 1846.86,-53.14 1953.16,53.16
3D body "User Library-HDR1X1 Rectangular Straight.step": height 234.25, standoff -230.31, extent 1746.86,-53.14 1853.16,53.16
3D body "User Library-HDR1X1 Rectangular Straight.step": height 234.25, standoff -230.31, extent 1646.86,-53.14 1753.16,53.16
3D body "User Library-HDR1X1 Rectangular Straight.step": height 234.25, standoff -230.31, extent 1546.86,-53.14 1653.16,53.16
3D body "User Library-HDR1X1 Rectangular Straight.step": height 234.25, standoff -230.31, extent 1446.86,-53.14 1553.16,53.16
3D body "User Library-HDR1X1 Rectangular Straight.step": height 234.25, standoff -230.31, extent 1346.86,-53.14 1453.16,53.16
3D body "User Library-HDR1X1 Rectangular Straight.step": height 234.25, standoff -230.31, extent 1246.86,-53.14 1353.16,53.16
3D body "User Library-HDR1X1 Rectangular Straight.step": height 234.25, standoff -230.31, extent 1146.86,-53.14 1253.16,53.16
3D body "User Library-HDR1X1 Rectangular Straight.step": height 234.25, standoff -230.31, extent 1046.86,-53.14 1153.16,53.16
3D body "User Library-HDR1X1 Rectangular Straight.step": height 234.25, standoff -230.31, extent 946.86,-53.14 1053.16,53.16

## PINHEAD_2.54mm_90deg_1x1 [mil]
pads (1):
  rect 60x60 hole 40: 1(0,0)
Top Overlay:
  lines w7.87: -50,-150 -50,-60 50,-60 50,-150 -50,-150
3D body "User Library-Header90-1.step": height 101, standoff -117.11, extent -50.19,-395.08 49.81,12.8

## PINHEAD_2.54mm_90deg_1x2 [mil]
pads (2):
  rect 60x60 hole 40: 1(0,0)
  round 60 hole 40: 2(100,0)
Top Overlay:
  lines w7.87: 50,-150 50,-60 ; -50,-150 150,-150 150,-60 -50,-60 -50,-150
3D body "User Library-Header90-1.step": height 101, standoff -117.11, extent 49.81,-395.08 149.81,12.8
3D body "User Library-Header90-1.step": height 101, standoff -117.11, extent -50.19,-395.08 49.81,12.8

## PINHEAD_2.54mm_90deg_1x3 [mil]
pads (3):
  rect 60x60 hole 40: 1(0,0)
  round 60 hole 40: 2(100,0) 3(200,0)
Top Overlay:
  lines w7.87: 50,-150 50,-60 ; 150,-150 250,-150 250,-60 150,-60 ; 150,-150 150,-60 ; 150,-150 150,-60 ; 150,-150 -50,-150 -50,-60 150,-60
3D body "User Library-Header90-1.step": height 101, standoff -117.11, extent 149.81,-395.08 249.81,12.8
3D body "User Library-Header90-1.step": height 101, standoff -117.11, extent -50.19,-395.08 49.81,12.8
3D body "User Library-Header90-1.step": height 101, standoff -117.11, extent 49.81,-395.08 149.81,12.8

## PINHEAD_2.54mm_90deg_1x4 [mil]
pads (4):
  rect 60x60 hole 40: 1(0,0)
  round 60 hole 40: 2(100,0) 3(200,0) 4(300,0)
Top Overlay:
  lines w7.87: 50,-150 50,-60 ; 150,-150 150,-60 ; 150,-150 -50,-150 -50,-60 150,-60 ; 150,-150 150,-60 ; 150,-150 250,-150 ; 150,-60 250,-60 ; 250,-150 250,-60 ; 250,-150 250,-60 ; 250,-150 350,-150 350,-60 250,-60
3D body "User Library-Header90-1.step": height 101, standoff -117.11, extent -50.19,-395.08 49.81,12.8
3D body "User Library-Header90-1.step": height 101, standoff -117.11, extent 49.81,-395.08 149.81,12.8
3D body "User Library-Header90-1.step": height 101, standoff -117.11, extent 149.81,-395.08 249.81,12.8
3D body "User Library-Header90-1.step": height 101, standoff -117.11, extent 249.81,-395.08 349.81,12.8

## PINHEAD_2.54mm_90deg_1x5 [mil]
pads (5):
  rect 60x60 hole 40: 1(0,0)
  round 60 hole 40: 2(100,0) 3(200,0) 4(300,0) 5(400,0)
Top Overlay:
  lines w7.87: 50,-150 50,-60 ; 150,-150 -50,-150 -50,-60 150,-60 ; 150,-150 150,-60 ; 150,-150 150,-60 ; 150,-150 250,-150 ; 150,-60 250,-60 ; 250,-150 250,-60 ; 250,-150 250,-60 ; 250,-150 350,-150 ; 250,-60 350,-60 ; 350,-150 350,-60 ; 350,-150 350,-60 ; 350,-150 450,-150 450,-60 350,-60
3D body "User Library-Header90-1.step": height 101, standoff -117.11, extent 49.81,-395.08 149.81,12.8
3D body "User Library-Header90-1.step": height 101, standoff -117.11, extent -50.19,-395.08 49.81,12.8
3D body "User Library-Header90-1.step": height 101, standoff -117.11, extent 149.81,-395.08 249.81,12.8
3D body "User Library-Header90-1.step": height 101, standoff -117.11, extent 249.81,-395.08 349.81,12.8
3D body "User Library-Header90-1.step": height 101, standoff -117.11, extent 349.81,-395.08 449.81,12.8

## PINHEAD_2.54mm_90deg_1x6 [mil]
pads (6):
  rect 60x60 hole 40: 1(0,0)
  round 60 hole 40: 2(100,0) 3(200,0) 4(300,0) 5(400,0) 6(500,0)
Top Overlay:
  lines w7.87: 50,-150 50,-60 ; 150,-150 250,-150 ; 150,-150 150,-60 ; 150,-150 150,-60 ; 150,-150 -50,-150 -50,-60 150,-60 ; 150,-60 250,-60 ; 250,-150 350,-150 ; 250,-150 250,-60 ; 250,-150 250,-60 ; 250,-60 350,-60 ; 350,-150 450,-150 ; 350,-150 350,-60 ; 350,-150 350,-60 ; 350,-60 450,-60 ; 450,-150 550,-150 550,-60 450,-60 ; 450,-150 450,-60 ; 450,-150 450,-60
3D body "User Library-Header90-1.step": height 101, standoff -117.11, extent 449.81,-395.08 549.81,12.8
3D body "User Library-Header90-1.step": height 101, standoff -117.11, extent 349.81,-395.08 449.81,12.8
3D body "User Library-Header90-1.step": height 101, standoff -117.11, extent 249.81,-395.08 349.81,12.8
3D body "User Library-Header90-1.step": height 101, standoff -117.11, extent 149.81,-395.08 249.81,12.8
3D body "User Library-Header90-1.step": height 101, standoff -117.11, extent -50.19,-395.08 49.81,12.8
3D body "User Library-Header90-1.step": height 101, standoff -117.11, extent 49.81,-395.08 149.81,12.8

## PINHEAD_2.54mm_90deg_1x7 [mil]
pads (7):
  rect 60x60 hole 40: 1(0,0)
  round 60 hole 40: 2(100,0) 3(200,0) 4(300,0) 5(400,0) 6(500,0) 7(600,0)
Top Overlay:
  lines w7.87: 50,-150 50,-60 ; 150,-150 -50,-150 -50,-60 150,-60 ; 150,-150 150,-60 ; 150,-150 150,-60 ; 150,-150 250,-150 ; 150,-60 250,-60 ; 250,-150 250,-60 ; 250,-150 250,-60 ; 250,-150 350,-150 ; 250,-60 350,-60 ; 350,-150 350,-60 ; 350,-150 350,-60 ; 350,-150 450,-150 ; 350,-60 450,-60 ; 450,-150 450,-60 ; 450,-150 450,-60 ; 450,-150 550,-150 ; 450,-60 550,-60 ; 550,-150 550,-60 ; 550,-150 550,-60 ; 550,-150 650,-150 650,-60 550,-60
3D body "User Library-Header90-1.step": height 101, standoff -117.11, extent 49.81,-395.08 149.81,12.8
3D body "User Library-Header90-1.step": height 101, standoff -117.11, extent -50.19,-395.08 49.81,12.8
3D body "User Library-Header90-1.step": height 101, standoff -117.11, extent 149.81,-395.08 249.81,12.8
3D body "User Library-Header90-1.step": height 101, standoff -117.11, extent 249.81,-395.08 349.81,12.8
3D body "User Library-Header90-1.step": height 101, standoff -117.11, extent 349.81,-395.08 449.81,12.8
3D body "User Library-Header90-1.step": height 101, standoff -117.11, extent 449.81,-395.08 549.81,12.8
3D body "User Library-Header90-1.step": height 101, standoff -117.11, extent 549.81,-395.08 649.81,12.8

## PINHEAD_2.54mm_90deg_1x8 [mil]
pads (8):
  rect 60x60 hole 40: 1(0,0)
  round 60 hole 40: 2(100,0) 3(200,0) 4(300,0) 5(400,0) 6(500,0) 7(600,0) 8(700,0)
Top Overlay:
  lines w7.87: 50,-150 50,-60 ; 150,-150 -50,-150 -50,-60 150,-60 ; 150,-150 150,-60 ; 150,-150 150,-60 ; 150,-150 250,-150 ; 150,-60 250,-60 ; 250,-150 250,-60 ; 250,-150 350,-150 ; 250,-150 250,-60 ; 250,-60 350,-60 ; 350,-150 350,-60 ; 350,-150 450,-150 ; 350,-150 350,-60 ; 350,-60 450,-60 ; 450,-150 450,-60 ; 450,-150 450,-60 ; 450,-150 550,-150 ; 450,-60 550,-60 ; 550,-150 550,-60 ; 550,-150 550,-60 ; 550,-150 650,-150 ; 550,-60 650,-60 ; 650,-150 650,-60 ; 650,-150 650,-60 ; 650,-150 750,-150 750,-60 650,-60
3D body "User Library-Header90-1.step": height 101, standoff -117.11, extent 49.81,-395.08 149.81,12.8
3D body "User Library-Header90-1.step": height 101, standoff -117.11, extent -50.19,-395.08 49.81,12.8
3D body "User Library-Header90-1.step": height 101, standoff -117.11, extent 349.81,-395.08 449.81,12.8
3D body "User Library-Header90-1.step": height 101, standoff -117.11, extent 449.81,-395.08 549.81,12.8
3D body "User Library-Header90-1.step": height 101, standoff -117.11, extent 549.81,-395.08 649.81,12.8
3D body "User Library-Header90-1.step": height 101, standoff -117.11, extent 649.81,-395.08 749.81,12.8
3D body "User Library-Header90-1.step": height 101, standoff -117.11, extent 249.81,-395.08 349.81,12.8
3D body "User Library-Header90-1.step": height 101, standoff -117.11, extent 149.81,-395.08 249.81,12.8

## PINHEAD_2.54mm_90deg_1x9 [mil]
pads (9):
  rect 60x60 hole 40: 1(0,0)
  round 60 hole 40: 2(100,0) 3(200,0) 4(300,0) 5(400,0) 6(500,0) 7(600,0) 8(700,0) 9(800,0)
Top Overlay:
  lines w7.87: 50,-150 50,-60 ; 150,-150 250,-150 ; 150,-150 150,-60 ; 150,-150 150,-60 ; 150,-150 -50,-150 -50,-60 150,-60 ; 150,-60 250,-60 ; 250,-150 350,-150 ; 250,-150 250,-60 ; 250,-150 250,-60 ; 250,-60 350,-60 ; 350,-150 450,-150 ; 350,-150 350,-60 ; 350,-150 350,-60 ; 350,-60 450,-60 ; 450,-150 550,-150 ; 450,-150 450,-60 ; 450,-150 450,-60 ; 450,-60 550,-60 ; 550,-150 650,-150 ; 550,-150 550,-60 ; 550,-150 550,-60 ; 550,-60 650,-60 ; 650,-150 750,-150 ; 650,-150 650,-60 ; 650,-150 650,-60 ; 650,-60 750,-60 ; 750,-150 850,-150 850,-60 750,-60 ; 750,-150 750,-60 ; 750,-150 750,-60
3D body "User Library-Header90-1.step": height 101, standoff -117.11, extent 749.81,-395.08 849.81,12.8
3D body "User Library-Header90-1.step": height 101, standoff -117.11, extent 649.81,-395.08 749.81,12.8
3D body "User Library-Header90-1.step": height 101, standoff -117.11, extent 549.81,-395.08 649.81,12.8
3D body "User Library-Header90-1.step": height 101, standoff -117.11, extent 449.81,-395.08 549.81,12.8
3D body "User Library-Header90-1.step": height 101, standoff -117.11, extent 349.81,-395.08 449.81,12.8
3D body "User Library-Header90-1.step": height 101, standoff -117.11, extent 249.81,-395.08 349.81,12.8
3D body "User Library-Header90-1.step": height 101, standoff -117.11, extent 149.81,-395.08 249.81,12.8
3D body "User Library-Header90-1.step": height 101, standoff -117.11, extent -50.19,-395.08 49.81,12.8
3D body "User Library-Header90-1.step": height 101, standoff -117.11, extent 49.81,-395.08 149.81,12.8

## PINHEAD_2.54mm_90deg_1x10 [mil]
pads (10):
  rect 60x60 hole 40: 1(0,0)
  round 60 hole 40: 2(100,0) 3(200,0) 4(300,0) 5(400,0) 6(500,0) 7(600,0) 8(700,0) 9(800,0) 10(900,0)
Top Overlay:
  lines w7.87: 50,-150 50,-60 ; 250,-150 250,-60 ; 150,-150 -50,-150 -50,-60 150,-60 ; 150,-150 150,-60 ; 150,-150 150,-60 ; 150,-150 350,-150 ; 150,-60 350,-60 ; 350,-150 450,-150 ; 350,-150 350,-60 ; 350,-150 350,-60 ; 350,-60 450,-60 ; 450,-150 550,-150 ; 450,-150 450,-60 ; 450,-150 450,-60 ; 450,-60 550,-60 ; 550,-150 650,-150 ; 550,-150 550,-60 ; 550,-150 550,-60 ; 550,-60 650,-60 ; 650,-150 750,-150 ; 650,-150 650,-60 ; 650,-150 650,-60 ; 650,-60 750,-60 ; 750,-150 850,-150 ; 750,-150 750,-60 ; 750,-150 750,-60 ; 750,-60 850,-60 ; 850,-150 950,-150 950,-60 850,-60 ; 850,-150 850,-60 ; 850,-150 850,-60
3D body "User Library-Header90-1.step": height 101, standoff -117.11, extent 49.81,-395.08 149.81,12.8
3D body "User Library-Header90-1.step": height 101, standoff -117.11, extent -50.19,-395.08 49.81,12.8
3D body "User Library-Header90-1.step": height 101, standoff -117.11, extent 849.81,-395.08 949.81,12.8
3D body "User Library-Header90-1.step": height 101, standoff -117.11, extent 749.81,-395.08 849.81,12.8
3D body "User Library-Header90-1.step": height 101, standoff -117.11, extent 649.81,-395.08 749.81,12.8
3D body "User Library-Header90-1.step": height 101, standoff -117.11, extent 549.81,-395.08 649.81,12.8
3D body "User Library-Header90-1.step": height 101, standoff -117.11, extent 449.81,-395.08 549.81,12.8
3D body "User Library-Header90-1.step": height 101, standoff -117.11, extent 349.81,-395.08 449.81,12.8
3D body "User Library-Header90-1.step": height 101, standoff -117.11, extent 149.81,-395.08 249.81,12.8
3D body "User Library-Header90-1.step": height 101, standoff -117.11, extent 249.81,-395.08 349.81,12.8